# EAGLE library part MAX1303_ADC (library jason_eagle6)
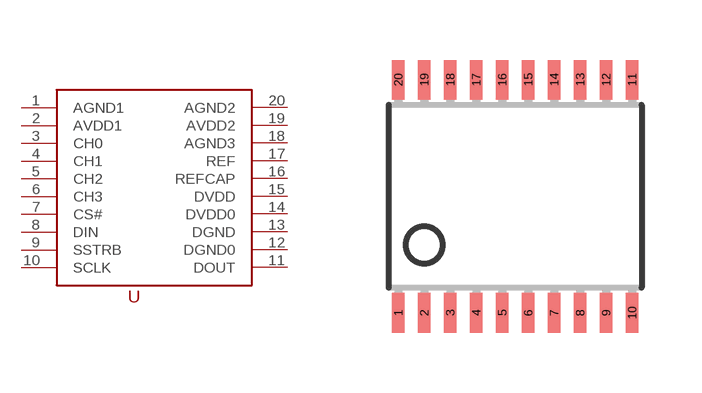
[diagram p32: symbol with the pads of TSSOP20; footprint TSSOP20]

Designator prefix -

## MAX1303_ADC  [TSSOP20]
1  AGND1
2  AVDD1
3  CH0
4  CH1
5  CH2
6  CH3
7  CS#
8  DIN
9  SSTRB
10  SCLK
11  DOUT
12  DGND0
13  DGND
14  DVDD0
15  DVDD
16  REFCAP
17  REF
18  AGND3
19  AVDD2
20  AGND2

## Footprint TSSOP20 (pad centres in mm)
smd 0.305 x 0.991: 1 -2.925,-2.918; 2 -2.275,-2.918; 3 -1.625,-2.918; 4 -0.975,-2.918; 5 -0.325,-2.918; 6 0.325,-2.918; 7 0.975,-2.918; 8 1.625,-2.918; 9 2.275,-2.918; 10 2.925,-2.918; 11 2.925,2.918; 12 2.275,2.918; 13 1.625,2.918; 14 0.975,2.918; 15 0.325,2.918; 16 -0.325,2.918; 17 -0.975,2.918; 18 -1.625,2.918; 19 -2.275,2.918; 20 -2.925,2.918